# Altium schematic symbol library supply terminal.SchLib: 1 symbol
Pins are listed as number, name and electrical type; pins without a type are passive.

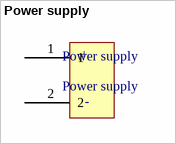
[diagram p0: symbol Power supply]

## Power supply
designator Power supply
footprint Supply terminal
pins: 1, 2
text: +; -